# Altium schematic symbol library MC_SunSensorPCB.SchLib: 30 symbols
Pins are listed as number, name and electrical type; pins without a type are passive.

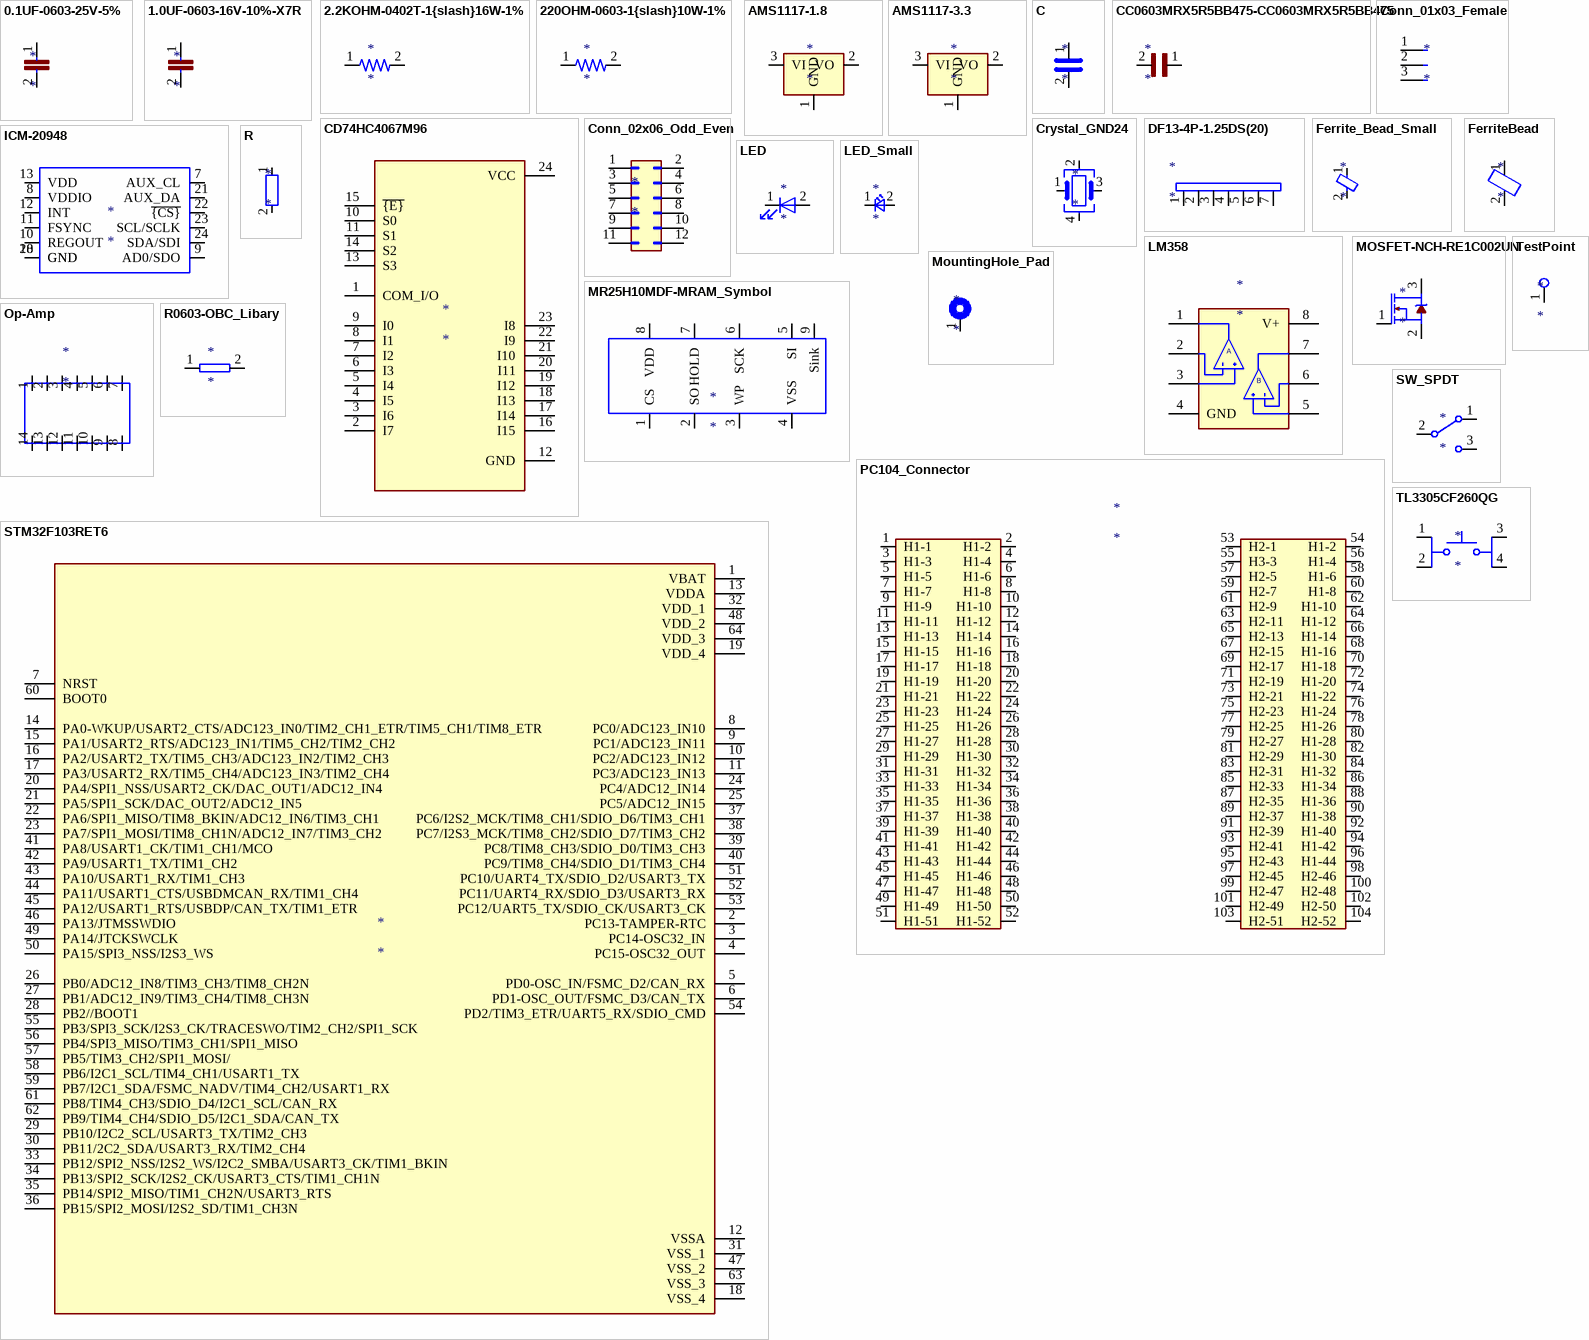
[diagram p0: symbols 0.1UF-0603-25V-5% to TL3305CF260QG]

## 0.1UF-0603-25V-5%
designator *
pins: 1, 2

## 1.0UF-0603-16V-10%-X7R
designator *
pins: 1, 2

## 2.2KOHM-0402T-1{slash}16W-1%
designator *
pins: 1, 2

## 220OHM-0603-1{slash}10W-1%
designator *
pins: 1, 2

## AMS1117-1.8
designator *
pins: 1 GND, 2 VO, 3 VI

## AMS1117-3.3
designator *
pins: 1 GND, 2 VO, 3 VI

## C
designator *
pins: 1, 2

## CC0603MRX5R5BB475-CC0603MRX5R5BB475
designator *
pins: 1, 2

## CD74HC4067M96
designator *
pins: 1 COM_I/O, 2 I7, 3 I6, 4 I5, 5 I4, 6 I3, 7 I2, 8 I1, 9 I0, 10 S0, 11 S1, 12 GND, 13 S3, 14 S2, 15 ~{{E}}, 16 I15, 17 I14, 18 I13, 19 I12, 20 I11, 21 I10, 22 I9, 23 I8, 24 VCC

## Conn_01x03_Female
designator *
pins: 1 Pin_1, 2 Pin_2, 3 Pin_3

## Conn_02x06_Odd_Even
designator *
pins: 1 Pin_1, 2 Pin_2, 3 Pin_3, 4 Pin_4, 5 Pin_5, 6 Pin_6, 7 Pin_7, 8 Pin_8, 9 Pin_9, 10 Pin_10, 11 Pin_11, 12 Pin_12

## Crystal_GND24
designator *
pins: 1, 2, 3, 4

## DF13-4P-1.25DS(20)
designator *
pins: 1, 2, 3, 4, 5, 6, 7

## Ferrite_Bead_Small
designator *
pins: 1, 2

## FerriteBead
designator *
pins: 1, 2

## ICM-20948
designator *
pins: 7 AUX_CL, 8 VDDIO, 9 AD0/SDO, 10 REGOUT, 11 FSYNC, 12 INT, 13 VDD, 18 GND, 20 GND, 21 AUX_DA, 22 ~{{CS}}, 23 SCL/SCLK, 24 SDA/SDI

## LED
designator *
pins: 1 K, 2 A

## LED_Small
designator *
pins: 1 K, 2 A

## LM358
designator *
pins: 1, 2, 3, 4 GND, 5, 6, 7, 8 V+
text: A; B

## MOSFET-NCH-RE1C002UN
designator *
pins: 1 G, 2 S, 3 D

## MountingHole_Pad
designator *
pins: 1

## MR25H10MDF-MRAM_Symbol
designator *
pins: 1 CS, 2 SO, 3 WP, 4 VSS, 5 SI, 6 SCK, 7 HOLD, 8 VDD, 9 Sink

## Op-Amp
designator *
pins: 1, 2, 3, 4, 5, 6, 7, 8, 9, 10, 11, 12, 13, 14

## PC104_Connector
designator *
pins: 1 H1-1, 2 H1-2, 3 H1-3, 4 H1-4, 5 H1-5, 6 H1-6, 7 H1-7, 8 H1-8, 9 H1-9, 10 H1-10, 11 H1-11, 12 H1-12, 13 H1-13, 14 H1-14, 15 H1-15, 16 H1-16, 17 H1-17, 18 H1-18, 19 H1-19, 20 H1-20, 21 H1-21, 22 H1-22, 23 H1-23, 24 H1-24, 25 H1-25, 26 H1-26, 27 H1-27, 28 H1-28, 29 H1-29, 30 H1-30, 31 H1-31, 32 H1-32, 33 H1-33, 34 H1-34, 35 H1-35, 36 H1-36, 37 H1-37, 38 H1-38, 39 H1-39, 40 H1-40, 41 H1-41, 42 H1-42, 43 H1-43, 44 H1-44, 45 H1-45, 46 H1-46, 47 H1-47, 48 H1-48, 49 H1-49, 50 H1-50, 51 H1-51, 52 H1-52, 53 H2-1, 54 H1-2, 55 H3-3, 56 H1-4, 57 H2-5, 58 H1-6, 59 H2-7, 60 H1-8, 61 H2-9, 62 H1-10, 63 H2-11, 64 H1-12, 65 H2-13, 66 H1-14, 67 H2-15, 68 H1-16, 69 H2-17, 70 H1-18, 71 H2-19, 72 H1-20, 73 H2-21, 74 H1-22, 75 H2-23, 76 H1-24, 77 H2-25, 78 H1-26, 79 H2-27, 80 H1-28, 81 H2-29, 82 H1-30, 83 H2-31, 84 H1-32, 85 H2-33, 86 H1-34, 87 H2-35, 88 H1-36, 89 H2-37, 90 H1-38, 91 H2-39, 92 H1-40, 93 H2-41, 94 H1-42, 95 H2-43, 96 H1-44, 97 H2-45, 98 H2-46, 99 H2-47, 100 H2-48, 101 H2-49, 102 H2-50, 103 H2-51, 104 H2-52

## R
designator *
pins: 1, 2

## R0603-OBC_Libary
designator *
pins: 1, 2

## STM32F103RET6
designator *
pins: 1 VBAT, 2 PC13-TAMPER-RTC, 3 PC14-OSC32_IN, 4 PC15-OSC32_OUT, 5 PD0-OSC_IN/FSMC_D2/CAN_RX, 6 PD1-OSC_OUT/FSMC_D3/CAN_TX, 7 NRST, 8 PC0/ADC123_IN10, 9 PC1/ADC123_IN11, 10 PC2/ADC123_IN12, 11 PC3/ADC123_IN13, 12 VSSA, 13 VDDA, 14 PA0-WKUP/USART2_CTS/ADC123_IN0/TIM2_CH1_ETR/TIM5_CH1/TIM8_ETR, 15 PA1/USART2_RTS/ADC123_IN1/TIM5_CH2/TIM2_CH2, 16 PA2/USART2_TX/TIM5_CH3/ADC123_IN2/TIM2_CH3, 17 PA3/USART2_RX/TIM5_CH4/ADC123_IN3/TIM2_CH4, 18 VSS_4, 19 VDD_4, 20 PA4/SPI1_NSS/USART2_CK/DAC_OUT1/ADC12_IN4, 21 PA5/SPI1_SCK/DAC_OUT2/ADC12_IN5, 22 PA6/SPI1_MISO/TIM8_BKIN/ADC12_IN6/TIM3_CH1, 23 PA7/SPI1_MOSI/TIM8_CH1N/ADC12_IN7/TIM3_CH2, 24 PC4/ADC12_IN14, 25 PC5/ADC12_IN15, 26 PB0/ADC12_IN8/TIM3_CH3/TIM8_CH2N, 27 PB1/ADC12_IN9/TIM3_CH4/TIM8_CH3N, 28 PB2//BOOT1, 29 PB10/I2C2_SCL/USART3_TX/TIM2_CH3, 30 PB11/2C2_SDA/USART3_RX/TIM2_CH4, 31 VSS_1, 32 VDD_1, 33 PB12/SPI2_NSS/I2S2_WS/I2C2_SMBA/USART3_CK/TIM1_BKIN, 34 PB13/SPI2_SCK/I2S2_CK/USART3_CTS/TIM1_CH1N, 35 PB14/SPI2_MISO/TIM1_CH2N/USART3_RTS, 36 PB15/SPI2_MOSI/I2S2_SD/TIM1_CH3N, 37 PC6/I2S2_MCK/TIM8_CH1/SDIO_D6/TIM3_CH1, 38 PC7/I2S3_MCK/TIM8_CH2/SDIO_D7/TIM3_CH2, 39 PC8/TIM8_CH3/SDIO_D0/TIM3_CH3, 40 PC9/TIM8_CH4/SDIO_D1/TIM3_CH4, 41 PA8/USART1_CK/TIM1_CH1/MCO, 42 PA9/USART1_TX/TIM1_CH2, 43 PA10/USART1_RX/TIM1_CH3, 44 PA11/USART1_CTS/USBDMCAN_RX/TIM1_CH4, 45 PA12/USART1_RTS/USBDP/CAN_TX/TIM1_ETR, 46 PA13/JTMSSWDIO, 47 VSS_2, 48 VDD_2, 49 PA14/JTCKSWCLK, 50 PA15/SPI3_NSS/I2S3_WS, 51 PC10/UART4_TX/SDIO_D2/USART3_TX, 52 PC11/UART4_RX/SDIO_D3/USART3_RX, 53 PC12/UART5_TX/SDIO_CK/USART3_CK, 54 PD2/TIM3_ETR/UART5_RX/SDIO_CMD, 55 PB3/SPI3_SCK/I2S3_CK/TRACESWO/TIM2_CH2/SPI1_SCK, 56 PB4/SPI3_MISO/TIM3_CH1/SPI1_MISO, 57 PB5/TIM3_CH2/SPI1_MOSI/, 58 PB6/I2C1_SCL/TIM4_CH1/USART1_TX, 59 PB7/I2C1_SDA/FSMC_NADV/TIM4_CH2/USART1_RX, 60 BOOT0, 61 PB8/TIM4_CH3/SDIO_D4/I2C1_SCL/CAN_RX, 62 PB9/TIM4_CH4/SDIO_D5/I2C1_SDA/CAN_TX, 63 VSS_3, 64 VDD_3

## SW_SPDT
designator *
pins: 1 A, 2 B, 3 C

## TestPoint
designator *
pins: 1

## TL3305CF260QG
designator *
pins: 1, 2, 3, 4